# Altium schematic symbol library Embedded - Microcontrollers.SchLib: 219 symbols (part 15 of 15)
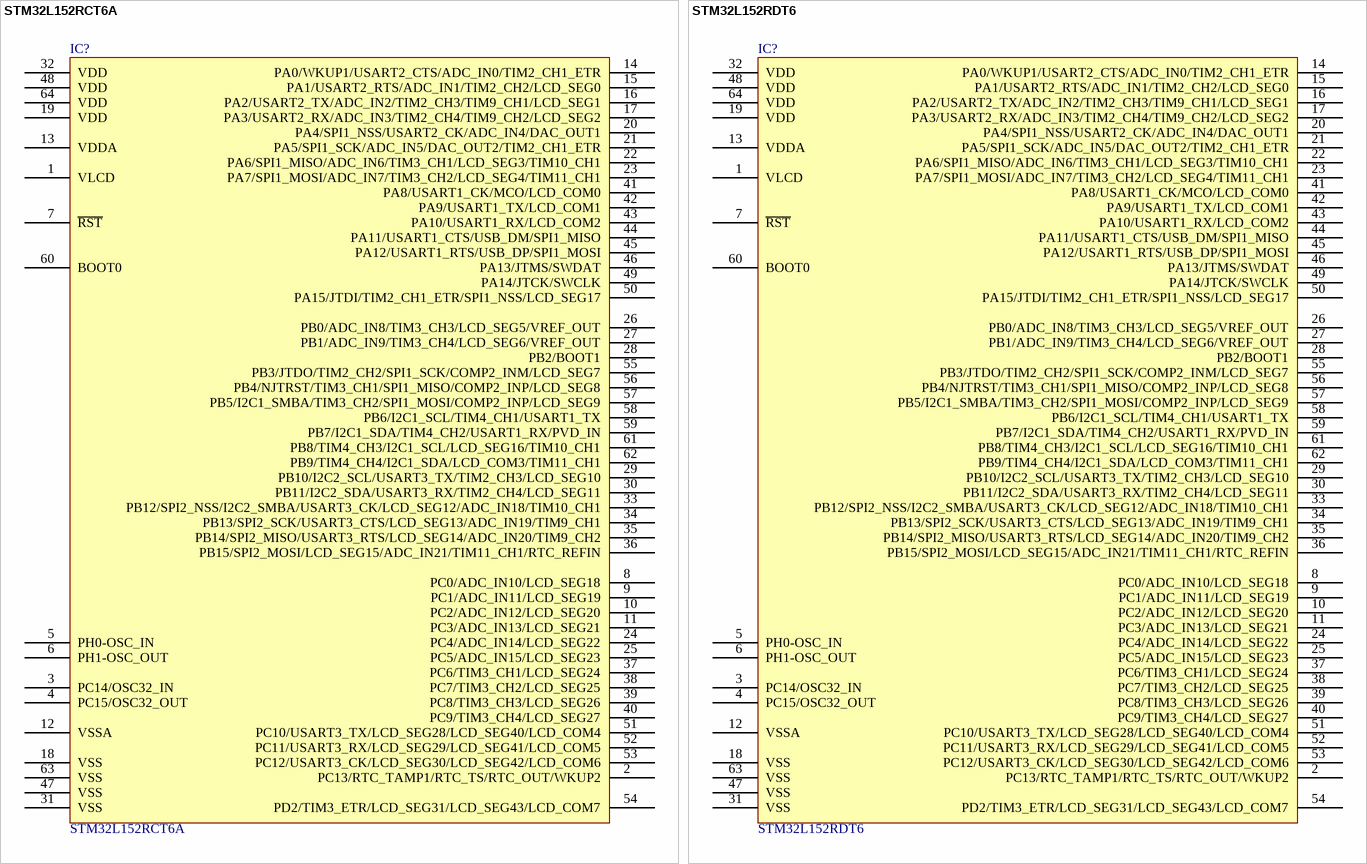
[diagram p115: symbols STM32L152RCT6A to STM32L152RDT6]

## STM32L152RCT6A
designator IC?
IC MCU 32BIT 256KB FLASH 64LQFP; Manufacturer: STMicroelectronics; Connectivity: I²C, IrDA, LINbus, SPI, UART/USART, USB; Core Processor: ARM® Cortex®-M3; Core Size: 32-Bit; Data Converters: A/D 21x12b; D/A 2x12b; EEPROM Size: 8K x 8; Number of I/O: 51; Oscillator Type: Internal; Peripherals: Brown-out Detect/Reset, DMA, I²S, LCD, POR, PWM, WDT; Program Memory Size: 256KB (256K x 8); RAM Size: 32K x 8; Speed: 32MHz; Voltage - Supply (Vcc/Vdd): 1.8V ~ 3.6V; Part Number: STM32L152RCT6A; ComponentLink1Description: Datasheet; ComponentLink1URL: http://www.st.com/content/ccc/resource/technical/document/datasheet/91/c7/99/86/66/f9/4d/21/DM00111457.pdf/files/DM00111457.pdf/jcr:content/translations/en.DM00111457.pdf; ComponentLink2Description: DigiKey Link; ComponentLink2URL: //digikey.com/product-detail/en/stmicroelectronics/STM32L152RCT6A/497-19675-ND/3087818; Device Package: 64-LQFP; LastUpdated: 12/12/2019 5:15:04 AM; Lifecycle Status: 0; Minimum Order: 1; Mounting Type: Surface Mount; Operating Temperature: -40°C ~ 85°C (TA); Package / Case: 64-LQFP; Packaging: Tray; PartId: 193; Part Status: Active; Price: 6.18; Program Memory Type: FLASH; Series: STM32L1; Supplier 1: DigiKey; Supplier Part Number 1: 497-19675-ND; Supplier Device Package: 64-LQFP (10x10)
footprint ST LQFP-64 10X10MM
pins: 1 VLCD, 2 PC13/RTC_TAMP1/RTC_TS/RTC_OUT/WKUP2, 3 PC14/OSC32_IN "PC14-OSC32_IN/PC14/OSC32_IN", 4 PC15/OSC32_OUT "PC15-OSC32_OUT/PC15/OSC32_OUT", 5 PH0-OSC_IN "PH0-OSC_IN/PH0/OSC_IN", 6 PH1-OSC_OUT "PH1-OSC_OUT/PH1/OSC_OUT", 7 ~{RST} "NRST", 8 PC0/ADC_IN10/LCD_SEG18, 9 PC1/ADC_IN11/LCD_SEG19, 10 PC2/ADC_IN12/LCD_SEG20, 11 PC3/ADC_IN13/LCD_SEG21, 12 VSSA, 13 VDDA, 14 PA0/WKUP1/USART2_CTS/ADC_IN0/TIM2_CH1_ETR, 15 PA1/USART2_RTS/ADC_IN1/TIM2_CH2/LCD_SEG0, 16 PA2/USART2_TX/ADC_IN2/TIM2_CH3/TIM9_CH1/LCD_SEG1, 17 PA3/USART2_RX/ADC_IN3/TIM2_CH4/TIM9_CH2/LCD_SEG2, 18 VSS, 19 VDD, 20 PA4/SPI1_NSS/USART2_CK/ADC_IN4/DAC_OUT1, 21 PA5/SPI1_SCK/ADC_IN5/DAC_OUT2/TIM2_CH1_ETR, 22 PA6/SPI1_MISO/ADC_IN6/TIM3_CH1/LCD_SEG3/TIM10_CH1, 23 PA7/SPI1_MOSI/ADC_IN7/TIM3_CH2/LCD_SEG4/TIM11_CH1, 24 PC4/ADC_IN14/LCD_SEG22, 25 PC5/ADC_IN15/LCD_SEG23, 26 PB0/ADC_IN8/TIM3_CH3/LCD_SEG5/VREF_OUT, 27 PB1/ADC_IN9/TIM3_CH4/LCD_SEG6/VREF_OUT, 28 PB2/BOOT1, 29 PB10/I2C2_SCL/USART3_TX/TIM2_CH3/LCD_SEG10, 30 PB11/I2C2_SDA/USART3_RX/TIM2_CH4/LCD_SEG11, 31 VSS, 32 VDD, 33 PB12/SPI2_NSS/I2C2_SMBA/USART3_CK/LCD_SEG12/ADC_IN18/TIM10_CH1, 34 PB13/SPI2_SCK/USART3_CTS/LCD_SEG13/ADC_IN19/TIM9_CH1, 35 PB14/SPI2_MISO/USART3_RTS/LCD_SEG14/ADC_IN20/TIM9_CH2, 36 PB15/SPI2_MOSI/LCD_SEG15/ADC_IN21/TIM11_CH1/RTC_REFIN, 37 PC6/TIM3_CH1/LCD_SEG24, 38 PC7/TIM3_CH2/LCD_SEG25, 39 PC8/TIM3_CH3/LCD_SEG26, 40 PC9/TIM3_CH4/LCD_SEG27, 41 PA8/USART1_CK/MCO/LCD_COM0, 42 PA9/USART1_TX/LCD_COM1, 43 PA10/USART1_RX/LCD_COM2, 44 PA11/USART1_CTS/USB_DM/SPI1_MISO, 45 PA12/USART1_RTS/USB_DP/SPI1_MOSI, 46 PA13/JTMS/SWDAT, 47 VSS, 48 VDD, 49 PA14/JTCK/SWCLK, 50 PA15/JTDI/TIM2_CH1_ETR/SPI1_NSS/LCD_SEG17, 51 PC10/USART3_TX/LCD_SEG28/LCD_SEG40/LCD_COM4, 52 PC11/USART3_RX/LCD_SEG29/LCD_SEG41/LCD_COM5, 53 PC12/USART3_CK/LCD_SEG30/LCD_SEG42/LCD_COM6, 54 PD2/TIM3_ETR/LCD_SEG31/LCD_SEG43/LCD_COM7, 55 PB3/JTDO/TIM2_CH2/SPI1_SCK/COMP2_INM/LCD_SEG7, 56 PB4/NJTRST/TIM3_CH1/SPI1_MISO/COMP2_INP/LCD_SEG8, 57 PB5/I2C1_SMBA/TIM3_CH2/SPI1_MOSI/COMP2_INP/LCD_SEG9, 58 PB6/I2C1_SCL/TIM4_CH1/USART1_TX, 59 PB7/I2C1_SDA/TIM4_CH2/USART1_RX/PVD_IN, 60 BOOT0, 61 PB8/TIM4_CH3/I2C1_SCL/LCD_SEG16/TIM10_CH1, 62 PB9/TIM4_CH4/I2C1_SDA/LCD_COM3/TIM11_CH1, 63 VSS, 64 VDD

## STM32L152RDT6
designator IC?
IC MCU 32BIT 384KB FLASH 64LQFP; Manufacturer: STMicroelectronics; Connectivity: I²C, IrDA, LINbus, SPI, UART/USART, USB; Core Processor: ARM® Cortex®-M3; Core Size: 32-Bit; Data Converters: A/D 21x12b; D/A 2x12b; EEPROM Size: 12K x 8; Number of I/O: 51; Oscillator Type: Internal; Peripherals: Brown-out Detect/Reset, DMA, I²S, LCD, POR, PWM, WDT; Program Memory Size: 384KB (384K x 8); RAM Size: 48K x 8; Speed: 32MHz; Voltage - Supply (Vcc/Vdd): 1.8V ~ 3.6V; Part Number: STM32L152RDT6; ComponentLink1Description: Datasheet; ComponentLink1URL: http://www.st.com/content/ccc/resource/technical/document/datasheet/58/e3/b5/60/88/c8/4b/1b/DM00034689.pdf/files/DM00034689.pdf/jcr:content/translations/en.DM00034689.pdf; ComponentLink2Description: DigiKey Link; ComponentLink2URL: //digikey.com/product-detail/en/stmicroelectronics/STM32L152RDT6/497-17535-ND/3087819; Device Package: 64-LQFP; LastUpdated: 12/12/2019 5:14:44 AM; Lifecycle Status: 0; Minimum Order: 1; Mounting Type: Surface Mount; Operating Temperature: -40°C ~ 85°C (TA); Package / Case: 64-LQFP; Packaging: Tray; PartId: 192; Part Status: Active; Price: 7.08; Program Memory Type: FLASH; Series: STM32L1; Supplier 1: DigiKey; Supplier Part Number 1: 497-17535-ND; Supplier Device Package: 64-LQFP (10x10)
footprint ST LQFP-64 10X10MM
pins: 1 VLCD, 2 PC13/RTC_TAMP1/RTC_TS/RTC_OUT/WKUP2, 3 PC14/OSC32_IN "PC14-OSC32_IN/PC14/OSC32_IN", 4 PC15/OSC32_OUT "PC15-OSC32_OUT/PC15/OSC32_OUT", 5 PH0-OSC_IN "PH0-OSC_IN/PH0/OSC_IN", 6 PH1-OSC_OUT "PH1-OSC_OUT/PH1/OSC_OUT", 7 ~{RST} "NRST", 8 PC0/ADC_IN10/LCD_SEG18, 9 PC1/ADC_IN11/LCD_SEG19, 10 PC2/ADC_IN12/LCD_SEG20, 11 PC3/ADC_IN13/LCD_SEG21, 12 VSSA, 13 VDDA, 14 PA0/WKUP1/USART2_CTS/ADC_IN0/TIM2_CH1_ETR, 15 PA1/USART2_RTS/ADC_IN1/TIM2_CH2/LCD_SEG0, 16 PA2/USART2_TX/ADC_IN2/TIM2_CH3/TIM9_CH1/LCD_SEG1, 17 PA3/USART2_RX/ADC_IN3/TIM2_CH4/TIM9_CH2/LCD_SEG2, 18 VSS, 19 VDD, 20 PA4/SPI1_NSS/USART2_CK/ADC_IN4/DAC_OUT1, 21 PA5/SPI1_SCK/ADC_IN5/DAC_OUT2/TIM2_CH1_ETR, 22 PA6/SPI1_MISO/ADC_IN6/TIM3_CH1/LCD_SEG3/TIM10_CH1, 23 PA7/SPI1_MOSI/ADC_IN7/TIM3_CH2/LCD_SEG4/TIM11_CH1, 24 PC4/ADC_IN14/LCD_SEG22, 25 PC5/ADC_IN15/LCD_SEG23, 26 PB0/ADC_IN8/TIM3_CH3/LCD_SEG5/VREF_OUT, 27 PB1/ADC_IN9/TIM3_CH4/LCD_SEG6/VREF_OUT, 28 PB2/BOOT1, 29 PB10/I2C2_SCL/USART3_TX/TIM2_CH3/LCD_SEG10, 30 PB11/I2C2_SDA/USART3_RX/TIM2_CH4/LCD_SEG11, 31 VSS, 32 VDD, 33 PB12/SPI2_NSS/I2C2_SMBA/USART3_CK/LCD_SEG12/ADC_IN18/TIM10_CH1, 34 PB13/SPI2_SCK/USART3_CTS/LCD_SEG13/ADC_IN19/TIM9_CH1, 35 PB14/SPI2_MISO/USART3_RTS/LCD_SEG14/ADC_IN20/TIM9_CH2, 36 PB15/SPI2_MOSI/LCD_SEG15/ADC_IN21/TIM11_CH1/RTC_REFIN, 37 PC6/TIM3_CH1/LCD_SEG24, 38 PC7/TIM3_CH2/LCD_SEG25, 39 PC8/TIM3_CH3/LCD_SEG26, 40 PC9/TIM3_CH4/LCD_SEG27, 41 PA8/USART1_CK/MCO/LCD_COM0, 42 PA9/USART1_TX/LCD_COM1, 43 PA10/USART1_RX/LCD_COM2, 44 PA11/USART1_CTS/USB_DM/SPI1_MISO, 45 PA12/USART1_RTS/USB_DP/SPI1_MOSI, 46 PA13/JTMS/SWDAT, 47 VSS, 48 VDD, 49 PA14/JTCK/SWCLK, 50 PA15/JTDI/TIM2_CH1_ETR/SPI1_NSS/LCD_SEG17, 51 PC10/USART3_TX/LCD_SEG28/LCD_SEG40/LCD_COM4, 52 PC11/USART3_RX/LCD_SEG29/LCD_SEG41/LCD_COM5, 53 PC12/USART3_CK/LCD_SEG30/LCD_SEG42/LCD_COM6, 54 PD2/TIM3_ETR/LCD_SEG31/LCD_SEG43/LCD_COM7, 55 PB3/JTDO/TIM2_CH2/SPI1_SCK/COMP2_INM/LCD_SEG7, 56 PB4/NJTRST/TIM3_CH1/SPI1_MISO/COMP2_INP/LCD_SEG8, 57 PB5/I2C1_SMBA/TIM3_CH2/SPI1_MOSI/COMP2_INP/LCD_SEG9, 58 PB6/I2C1_SCL/TIM4_CH1/USART1_TX, 59 PB7/I2C1_SDA/TIM4_CH2/USART1_RX/PVD_IN, 60 BOOT0, 61 PB8/TIM4_CH3/I2C1_SCL/LCD_SEG16/TIM10_CH1, 62 PB9/TIM4_CH4/I2C1_SDA/LCD_COM3/TIM11_CH1, 63 VSS, 64 VDD

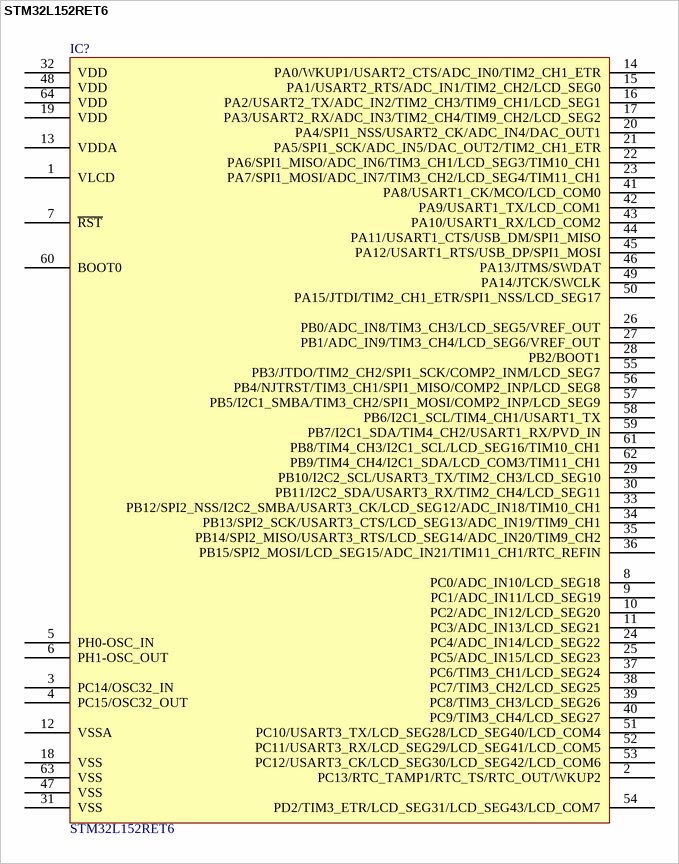
[diagram p101: symbol STM32L152RET6]

## STM32L152RET6
designator IC?
IC MCU 32BIT 512KB FLASH 64LQFP; Manufacturer: STMicroelectronics; Connectivity: I²C, IrDA, LINbus, SPI, UART/USART, USB; Core Processor: ARM® Cortex®-M3; Core Size: 32-Bit; Data Converters: A/D 21x12b; D/A 2x12b; EEPROM Size: 16K x 8; Number of I/O: 51; Oscillator Type: Internal; Peripherals: Brown-out Detect/Reset, DMA, I²S, LCD, POR, PWM, WDT; Program Memory Size: 512KB (512K x 8); RAM Size: 80K x 8; Speed: 32MHz; Voltage - Supply (Vcc/Vdd): 1.8V ~ 3.6V; Part Number: STM32L152RET6; ComponentLink1Description: Datasheet; ComponentLink1URL: http://www.st.com/content/ccc/resource/technical/document/datasheet/group1/a7/13/6a/ce/1f/f3/40/c1/DM00098321/files/DM00098321.pdf/jcr:content/translations/en.DM00098321.pdf; ComponentLink2Description: DigiKey Link; ComponentLink2URL: //digikey.com/product-detail/en/stmicroelectronics/STM32L152RET6/497-15830-ND/5051409; Device Package: 64-LQFP; LastUpdated: 12/12/2019 5:07:59 AM; Lifecycle Status: 0; Minimum Order: 1; Mounting Type: Surface Mount; Operating Temperature: -40°C ~ 85°C (TA); Package / Case: 64-LQFP; Packaging: Tray; PartId: 180; Part Status: Active; Price: 7.56; Program Memory Type: FLASH; Series: STM32L1; Supplier 1: DigiKey; Supplier Part Number 1: 497-15830-ND; Supplier Device Package: 64-LQFP (10x10)
footprint ST LQFP-64 10X10MM
pins: 1 VLCD, 2 PC13/RTC_TAMP1/RTC_TS/RTC_OUT/WKUP2, 3 PC14/OSC32_IN "PC14-OSC32_IN/PC14/OSC32_IN", 4 PC15/OSC32_OUT "PC15-OSC32_OUT/PC15/OSC32_OUT", 5 PH0-OSC_IN "PH0-OSC_IN/PH0/OSC_IN", 6 PH1-OSC_OUT "PH1-OSC_OUT/PH1/OSC_OUT", 7 ~{RST} "NRST", 8 PC0/ADC_IN10/LCD_SEG18, 9 PC1/ADC_IN11/LCD_SEG19, 10 PC2/ADC_IN12/LCD_SEG20, 11 PC3/ADC_IN13/LCD_SEG21, 12 VSSA, 13 VDDA, 14 PA0/WKUP1/USART2_CTS/ADC_IN0/TIM2_CH1_ETR, 15 PA1/USART2_RTS/ADC_IN1/TIM2_CH2/LCD_SEG0, 16 PA2/USART2_TX/ADC_IN2/TIM2_CH3/TIM9_CH1/LCD_SEG1, 17 PA3/USART2_RX/ADC_IN3/TIM2_CH4/TIM9_CH2/LCD_SEG2, 18 VSS, 19 VDD, 20 PA4/SPI1_NSS/USART2_CK/ADC_IN4/DAC_OUT1, 21 PA5/SPI1_SCK/ADC_IN5/DAC_OUT2/TIM2_CH1_ETR, 22 PA6/SPI1_MISO/ADC_IN6/TIM3_CH1/LCD_SEG3/TIM10_CH1, 23 PA7/SPI1_MOSI/ADC_IN7/TIM3_CH2/LCD_SEG4/TIM11_CH1, 24 PC4/ADC_IN14/LCD_SEG22, 25 PC5/ADC_IN15/LCD_SEG23, 26 PB0/ADC_IN8/TIM3_CH3/LCD_SEG5/VREF_OUT, 27 PB1/ADC_IN9/TIM3_CH4/LCD_SEG6/VREF_OUT, 28 PB2/BOOT1, 29 PB10/I2C2_SCL/USART3_TX/TIM2_CH3/LCD_SEG10, 30 PB11/I2C2_SDA/USART3_RX/TIM2_CH4/LCD_SEG11, 31 VSS, 32 VDD, 33 PB12/SPI2_NSS/I2C2_SMBA/USART3_CK/LCD_SEG12/ADC_IN18/TIM10_CH1, 34 PB13/SPI2_SCK/USART3_CTS/LCD_SEG13/ADC_IN19/TIM9_CH1, 35 PB14/SPI2_MISO/USART3_RTS/LCD_SEG14/ADC_IN20/TIM9_CH2, 36 PB15/SPI2_MOSI/LCD_SEG15/ADC_IN21/TIM11_CH1/RTC_REFIN, 37 PC6/TIM3_CH1/LCD_SEG24, 38 PC7/TIM3_CH2/LCD_SEG25, 39 PC8/TIM3_CH3/LCD_SEG26, 40 PC9/TIM3_CH4/LCD_SEG27, 41 PA8/USART1_CK/MCO/LCD_COM0, 42 PA9/USART1_TX/LCD_COM1, 43 PA10/USART1_RX/LCD_COM2, 44 PA11/USART1_CTS/USB_DM/SPI1_MISO, 45 PA12/USART1_RTS/USB_DP/SPI1_MOSI, 46 PA13/JTMS/SWDAT, 47 VSS, 48 VDD, 49 PA14/JTCK/SWCLK, 50 PA15/JTDI/TIM2_CH1_ETR/SPI1_NSS/LCD_SEG17, 51 PC10/USART3_TX/LCD_SEG28/LCD_SEG40/LCD_COM4, 52 PC11/USART3_RX/LCD_SEG29/LCD_SEG41/LCD_COM5, 53 PC12/USART3_CK/LCD_SEG30/LCD_SEG42/LCD_COM6, 54 PD2/TIM3_ETR/LCD_SEG31/LCD_SEG43/LCD_COM7, 55 PB3/JTDO/TIM2_CH2/SPI1_SCK/COMP2_INM/LCD_SEG7, 56 PB4/NJTRST/TIM3_CH1/SPI1_MISO/COMP2_INP/LCD_SEG8, 57 PB5/I2C1_SMBA/TIM3_CH2/SPI1_MOSI/COMP2_INP/LCD_SEG9, 58 PB6/I2C1_SCL/TIM4_CH1/USART1_TX, 59 PB7/I2C1_SDA/TIM4_CH2/USART1_RX/PVD_IN, 60 BOOT0, 61 PB8/TIM4_CH3/I2C1_SCL/LCD_SEG16/TIM10_CH1, 62 PB9/TIM4_CH4/I2C1_SDA/LCD_COM3/TIM11_CH1, 63 VSS, 64 VDD